# Altium schematic symbol library SCH - DRIVER - LED - TI TLC5920_DL_48.SchLib: 1 symbol
Pins are listed as number, name and electrical type; pins without a type are passive.

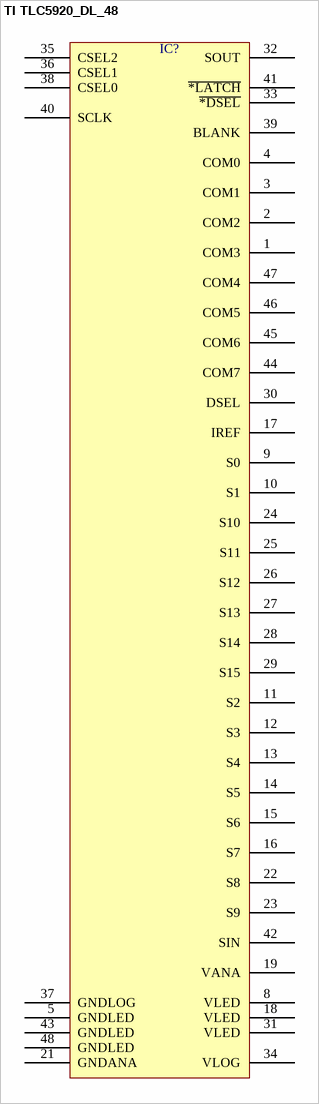
[diagram p0: symbol TI TLC5920_DL_48]

## TI TLC5920_DL_48
designator IC?  (value not drawn)
pins: 1 COM3, 2 COM2, 3 COM1, 4 COM0, 5 GNDLED, 8 VLED, 9 S0, 10 S1, 11 S2, 12 S3, 13 S4, 14 S5, 15 S6, 16 S7, 17 IREF, 18 VLED, 19 VANA, 21 GNDANA, 22 S8, 23 S9, 24 S10, 25 S11, 26 S12, 27 S13, 28 S14, 29 S15, 30 DSEL, 31 VLED, 32 SOUT, 33 ~{*DSEL}, 34 VLOG, 35 CSEL2, 36 CSEL1, 37 GNDLOG, 38 CSEL0, 39 BLANK, 40 SCLK, 41 ~{*LATCH}, 42 SIN, 43 GNDLED, 44 COM7, 45 COM6, 46 COM5, 47 COM4, 48 GNDLED